# Altium schematic symbol library pwr_mon_supervisor_single.SchLib: 45 symbols
Pins are listed as number, name and electrical type; pins without a type are passive.

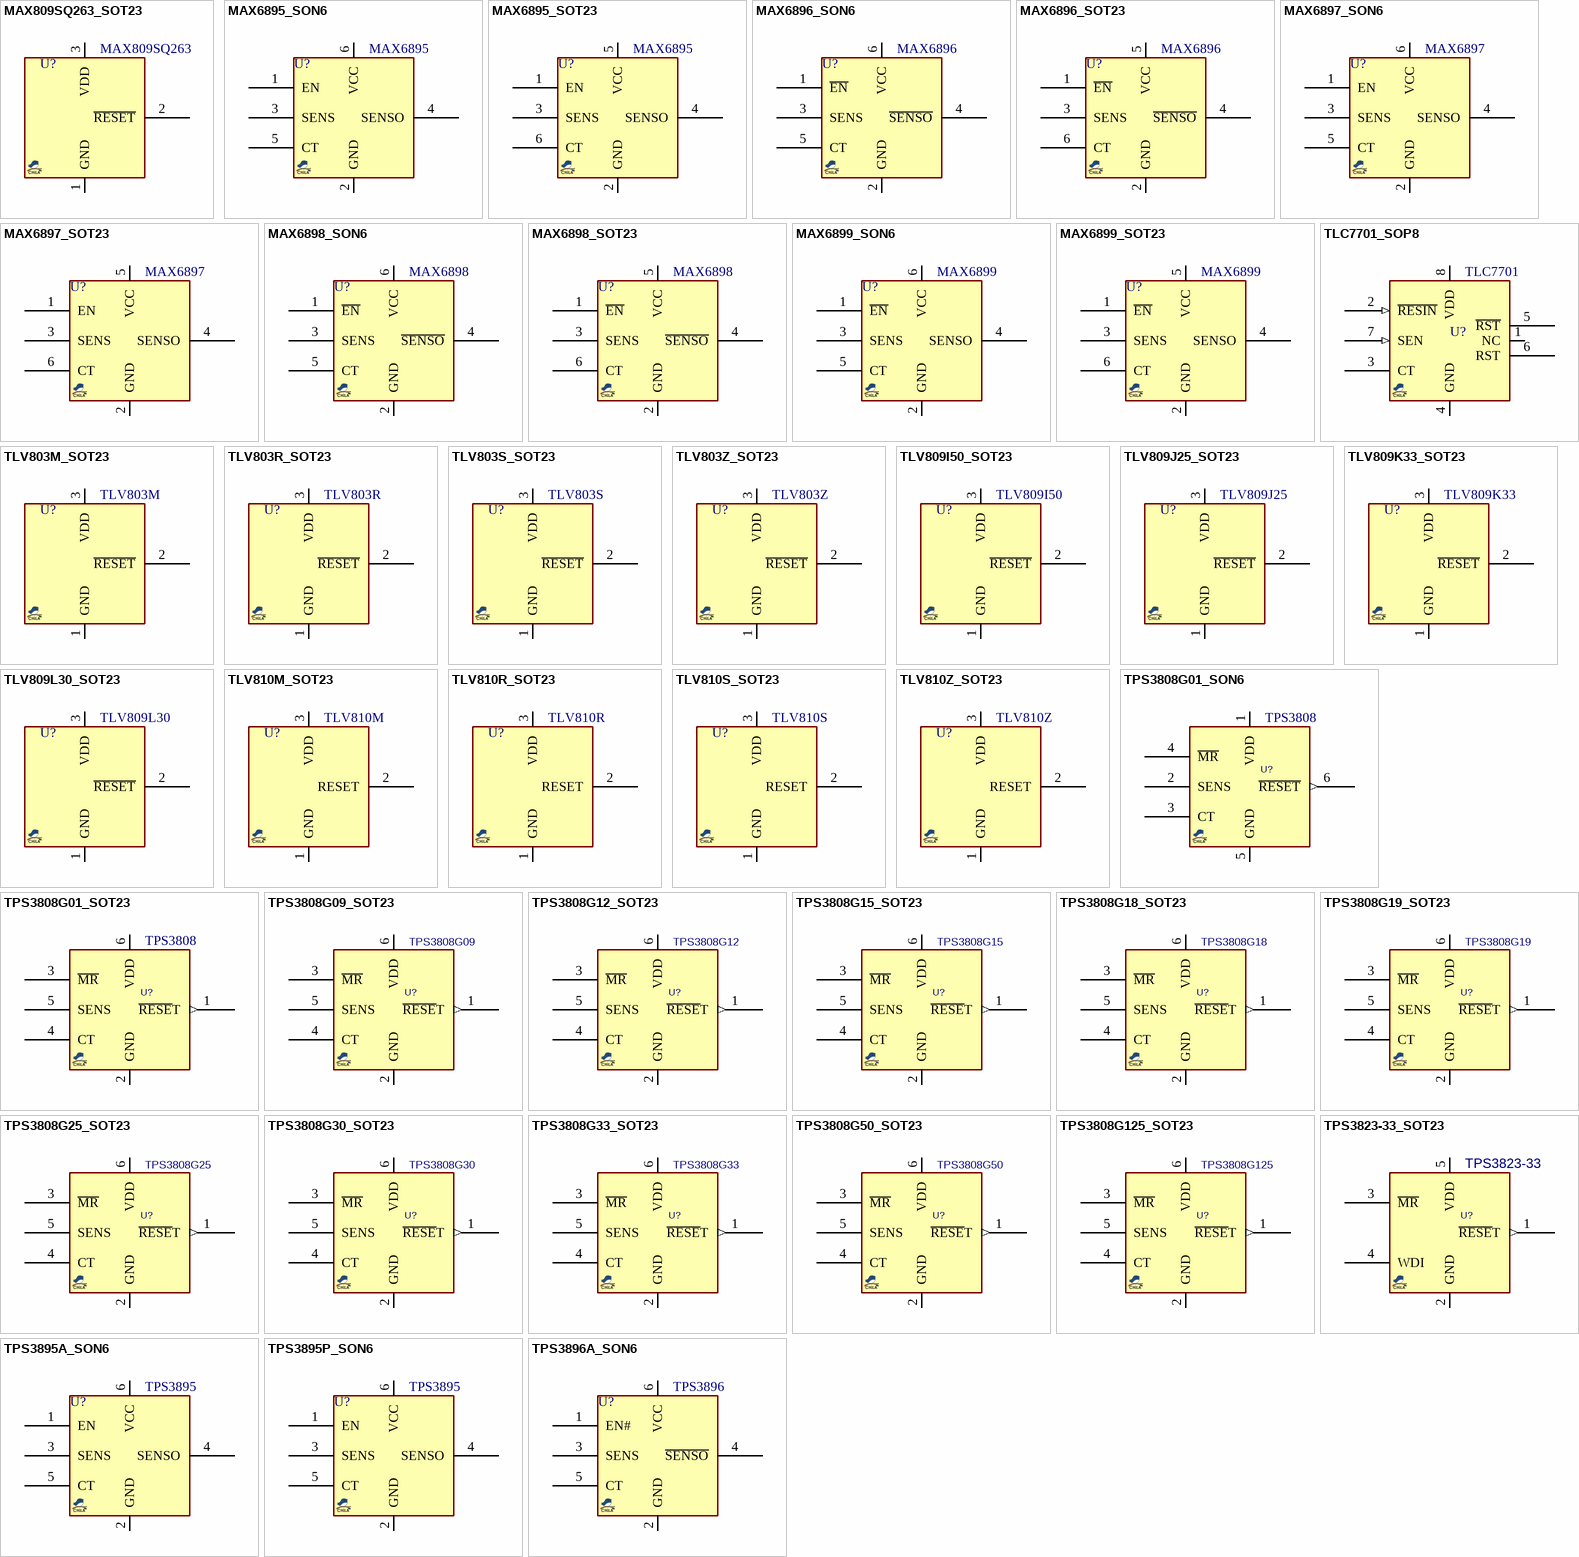
[diagram p0: symbols MAX809SQ263_SOT23 to TPS3896A_SON6]

## MAX809SQ263_SOT23
designator U?, comment MAX809SQ263
PWR SUPERVISOR, 1.2~4.9V SC70-3; MANF: ON; MANF_P#: MAX809SQ263T1G; PARAM2: 2.63Vth, -40°C ~ 105°C; PARAM: ActiveLow, Push-pull, 140ms Min; PRICE: 1=0.55$; VALUE: MAX809SQ263; PACKAGE: SOT323-3; MountType: SMD; Part Type: IC
footprint SOT323_3 (SOT323, SC-70/SC70-3L, DCK, MO-203, 2X1.25mm, 1.27mm pitch)
pins: 1 GND, 2 ~{RESET}, 3 VDD

## MAX6895_SON6
designator U?, comment MAX6895
PWR SUPERVISOR, ActiveHigh, Push-pull, Adj; MANF: Maxim Integrated; MANF_P#: MAX6895AALT+T; PARAM2: 1.5~5.5V, 0.5Vth, CapAdj; PARAM: ActiveHigh, Push-pull, -40~125oC; PRICE: 2$; VALUE: MAX6895; PACKAGE: UDFN-6_1.5x1.0mm; MountType: SMD; Part Type: IC
footprint SON50_6_140X100 (DRY, ULLGA6_1.45X1_0.5MM, USON 6-PIN , Udfn)
pins: 1 EN, 2 GND, 3 SENS, 4 SENSO, 5 CT, 6 VCC

## MAX6895_SOT23
designator U?, comment MAX6895
PWR SUPERVISOR, ActiveHigh, Push-pull, Adj; MANF: Maxim Integrated; MANF_P#: MAX6895AAZT+T; PARAM2: 1.5~5.5V, 0.5Vth, CapAdj; PARAM: ActiveHigh, Push-pull, -40~125oC; PRICE: 2$; VALUE: MAX6895; PACKAGE: SOT23-6; MountType: SMD; Part Type: IC
footprint SOT23_6 (SOT-23-6, MICRO6, SOT-26, SOT457, SuperSOT6, TSOP-6, HMC313, MO-178AB, MO-193AA, TSOT)
pins: 1 EN, 2 GND, 3 SENS, 4 SENSO, 5 VCC, 6 CT

## MAX6896_SON6
designator U?, comment MAX6896
PWR SUPERVISOR, ActiveLow, Push-pull, Adj; MANF: Maxim Integrated; MANF_P#: MAX6896AALT+T; PARAM2: 1.5~5.5V, 0.5Vth, CapAdj; PARAM: ActiveLow, Push-pull, -40~125oC; PRICE: 2$; VALUE: MAX6896; PACKAGE: UDFN-6_1.5x1.0mm; MountType: SMD; Part Type: IC
footprint SON50_6_140X100 (DRY, ULLGA6_1.45X1_0.5MM, USON 6-PIN , Udfn)
pins: 1 ~{EN}, 2 GND, 3 SENS, 4 ~{SENSO}, 5 CT, 6 VCC

## MAX6896_SOT23
designator U?, comment MAX6896
PWR SUPERVISOR, ActiveLow, Push-pull, Adj; MANF: Maxim Integrated; MANF_P#: MAX6896AAZT+T; PARAM2: 1.5~5.5V, 0.5Vth, CapAdj; PARAM: ActiveLow, Push-pull, -40~125oC; PRICE: 2$; VALUE: MAX6896; PACKAGE: SOT23-6; MountType: SMD; Part Type: IC
footprint SOT23_6 (SOT-23-6, MICRO6, SOT-26, SOT457, SuperSOT6, TSOP-6, HMC313, MO-178AB, MO-193AA, TSOT)
pins: 1 ~{EN}, 2 GND, 3 SENS, 4 ~{SENSO}, 5 VCC, 6 CT

## MAX6897_SON6
designator U?, comment MAX6897
PWR SUPERVISOR, ActiveHigh, OpenDrain, Adj; MANF: Maxim Integrated; MANF_P#: MAX6897AALT+T; PARAM2: 1.5~5.5V, 0.5Vth, CapAdj; PARAM: ActiveHigh, OpenDrain, -40~125oC; PRICE: 2$; VALUE: MAX6897; PACKAGE: UDFN-6_1.5x1.0mm; MountType: SMD; Part Type: IC
footprint SON50_6_140X100 (DRY, ULLGA6_1.45X1_0.5MM, USON 6-PIN , Udfn)
pins: 1 EN, 2 GND, 3 SENS, 4 SENSO, 5 CT, 6 VCC

## MAX6897_SOT23
designator U?, comment MAX6897
PWR SUPERVISOR, ActiveHigh, OpenDrain, Adj; MANF: Maxim Integrated; MANF_P#: MAX6897AAZT+T; PARAM2: 1.5~5.5V, 0.5Vth, CapAdj; PARAM: ActiveHigh, OpenDrain, -40~125oC; PRICE: 2$; VALUE: MAX6897; PACKAGE: SOT23-6; MountType: SMD; Part Type: IC
footprint SOT23_6 (SOT-23-6, MICRO6, SOT-26, SOT457, SuperSOT6, TSOP-6, HMC313, MO-178AB, MO-193AA, TSOT)
pins: 1 EN, 2 GND, 3 SENS, 4 SENSO, 5 VCC, 6 CT

## MAX6898_SON6
designator U?, comment MAX6898
PWR SUPERVISOR, ActiveLow, OpenDrain, Adj; MANF: Maxim Integrated; MANF_P#: MAX6898AALT+T; PARAM2: 1.5~5.5V, 0.5Vth, CapAdj; PARAM: ActiveLow, OpenDrain, -40~125oC; PRICE: 2$; VALUE: MAX6898; PACKAGE: UDFN-6_1.5x1.0mm; MountType: SMD; Part Type: IC
footprint SON50_6_140X100 (DRY, ULLGA6_1.45X1_0.5MM, USON 6-PIN , Udfn)
pins: 1 ~{EN}, 2 GND, 3 SENS, 4 ~{SENSO}, 5 CT, 6 VCC

## MAX6898_SOT23
designator U?, comment MAX6898
PWR SUPERVISOR, ActiveLow, OpenDrain, Adj; MANF: Maxim Integrated; MANF_P#: MAX6898AAZT+T; PARAM2: 1.5~5.5V, 0.5Vth, CapAdj; PARAM: ActiveLow, OpenDrain, -40~125oC; PRICE: 2$; VALUE: MAX6898; PACKAGE: SOT23-6; MountType: SMD; Part Type: IC
footprint SOT23_6 (SOT-23-6, MICRO6, SOT-26, SOT457, SuperSOT6, TSOP-6, HMC313, MO-178AB, MO-193AA, TSOT)
pins: 1 ~{EN}, 2 GND, 3 SENS, 4 ~{SENSO}, 5 VCC, 6 CT

## MAX6899_SON6
designator U?, comment MAX6899
PWR SUPERVISOR, ActiveLow, PushPull, Adj; MANF: Maxim Integrated; MANF_P#: MAX6899AALT+T; PARAM2: 1.5~5.5V, 0.5Vth, CapAdj; PARAM: ActiveLow, PushPull, -40~125oC; PRICE: 2$; VALUE: MAX6899; PACKAGE: UDFN-6_1.5x1.0mm; MountType: SMD; Part Type: IC
footprint SON50_6_140X100 (DRY, ULLGA6_1.45X1_0.5MM, USON 6-PIN , Udfn)
pins: 1 ~{EN}, 2 GND, 3 SENS, 4 SENSO, 5 CT, 6 VCC

## MAX6899_SOT23
designator U?, comment MAX6899
PWR SUPERVISOR, ActiveLow, PushPull, Adj; MANF: Maxim Integrated; MANF_P#: MAX6899AAZT+T; PARAM2: 1.5~5.5V, 0.5Vth, CapAdj; PARAM: ActiveLow, PushPull, -40~125oC; PRICE: 2$; VALUE: MAX6899; PACKAGE: SOT23-6; MountType: SMD; Part Type: IC
footprint SOT23_6 (SOT-23-6, MICRO6, SOT-26, SOT457, SuperSOT6, TSOP-6, HMC313, MO-178AB, MO-193AA, TSOT)
pins: 1 ~{EN}, 2 GND, 3 SENS, 4 SENSO, 5 VCC, 6 CT

## TLC7701_SOP8
designator U?, comment TLC7701
PWR SUPERVISOR, LinCMOS; MANF: Texas Instruments; MANF_P#: TLC7701ID; PARAM2: 2~6Vcc, 1.1Vth, -40~125oC; PRICE: 2$; VALUE: TLC7701; PACKAGE: SOP-8; MountType: SMD; Part Type: IC
footprint SO_8 (SOP-8, 5x3.9mm body 1.27mm pitch, SOT96-1, M08A, S8, SOIC8, VO8, MS-012AA(JEDEC), R-8, 8S2, VOG8)
pins: 1 NC, 2 ~{RESIN} (in), 3 CT, 4 GND (power), 5 ~{RST} (oc), 6 RST (oc), 7 SEN (in), 8 VDD (power)

## TLV803M_SOT23
designator U?, comment TLV803M
PWR SUPERVISOR, 5.0V SOT23-3; MANF: Texas Instruments; MANF_P#: TLV803MDBZR; PARAM2: 4.38Vth, -40°C ~ 125°C; PARAM: ActiveLow, OpenDrain, 120ms Min; PRICE: 1=0.66, 10=0.578, 25=0.5104, 100=0.216, 250=0.212, 500=0.208, 750=0.204 (USD); VALUE: TLV803M; PACKAGE: SOT23-3; MountType: SMD; Part Type: IC
footprint SOT23_3 (SOT-23, Micro3, MO-178, TO-236AB, MO-193C, SuperSOT3, SC-59, 1.9mm pitch 3X1.5mm body)
pins: 1 GND, 2 ~{RESET}, 3 VDD

## TLV803R_SOT23
designator U?, comment TLV803R
PWR SUPERVISOR, 3.0V SOT23-3; MANF: Texas Instruments; MANF_P#: TLV803RDBZR; PARAM2: 2.64Vth, -40°C ~ 125°C; PARAM: ActiveLow, OpenDrain, 120ms Min; PRICE: 1=0.66, 10=0.578, 25=0.5104, 100=0.216, 250=0.212, 500=0.208, 750=0.204 (USD); VALUE: TLV803R; PACKAGE: SOT23-3; MountType: SMD; Part Type: IC
footprint SOT23_3 (SOT-23, Micro3, MO-178, TO-236AB, MO-193C, SuperSOT3, SC-59, 1.9mm pitch 3X1.5mm body)
pins: 1 GND, 2 ~{RESET}, 3 VDD

## TLV803S_SOT23
designator U?, comment TLV803S
PWR SUPERVISOR, 3.3V SOT23-3; MANF: Texas Instruments; MANF_P#: TLV803SDBZR; PARAM2: 2.93Vth, -40°C ~ 125°C; PARAM: ActiveLow, OpenDrain, 120ms Min; PRICE: 1=0.66, 10=0.578, 25=0.5104, 100=0.216, 250=0.212, 500=0.208, 750=0.204 (USD); VALUE: TLV803S; PACKAGE: SOT23-3; MountType: SMD; Part Type: IC
footprint SOT23_3 (SOT-23, Micro3, MO-178, TO-236AB, MO-193C, SuperSOT3, SC-59, 1.9mm pitch 3X1.5mm body)
pins: 1 GND, 2 ~{RESET}, 3 VDD

## TLV803Z_SOT23
designator U?, comment TLV803Z
PWR SUPERVISOR, 2.5V SOT23-3; MANF: Texas Instruments; MANF_P#: TLV803ZDBZR; PARAM2: 2.25Vth, -40°C ~ 125°C; PARAM: ActiveLow, OpenDrain, 120ms Min; PRICE: 1=0.66, 10=0.578, 25=0.5104, 100=0.216, 250=0.212, 500=0.208, 750=0.204 (USD); VALUE: TLV803Z; PACKAGE: SOT23-3; MountType: SMD; Part Type: IC
footprint SOT23_3 (SOT-23, Micro3, MO-178, TO-236AB, MO-193C, SuperSOT3, SC-59, 1.9mm pitch 3X1.5mm body)
pins: 1 GND, 2 ~{RESET}, 3 VDD

## TLV809I50_SOT23
designator U?, comment TLV809I50
PWR SUPERVISOR, 5.0V, PushPull, SOT23-3; MANF: Texas Instruments; MANF_P#: TLV809I50DBVR; PARAM2: 4.55Vth, -40°C ~ 125°C; PARAM: ActiveLow, PushPull, 120ms Min; PRICE: 1=0.66, 10=0.578, 25=0.5104, 100=0.216, 250=0.212, 500=0.208, 750=0.204 (USD); VALUE: TLV809I50; PACKAGE: SOT23-3; MountType: SMD; Part Type: IC
footprint SOT23_3 (SOT-23, Micro3, MO-178, TO-236AB, MO-193C, SuperSOT3, SC-59, 1.9mm pitch 3X1.5mm body)
pins: 1 GND, 2 ~{RESET}, 3 VDD

## TLV809J25_SOT23
designator U?, comment TLV809J25
PWR SUPERVISOR, 2.5V, PushPull, SOT23-3; MANF: Texas Instruments; MANF_P#: TLV809J25DBVR; PARAM2: 2.25Vth, -40°C ~ 125°C; PARAM: ActiveLow, PushPull, 120ms Min; PRICE: 1=0.66, 10=0.578, 25=0.5104, 100=0.216, 250=0.212, 500=0.208, 750=0.204 (USD); VALUE: TLV809J25; PACKAGE: SOT23-3; MountType: SMD; Part Type: IC
footprint SOT23_3 (SOT-23, Micro3, MO-178, TO-236AB, MO-193C, SuperSOT3, SC-59, 1.9mm pitch 3X1.5mm body)
pins: 1 GND, 2 ~{RESET}, 3 VDD

## TLV809K33_SOT23
designator U?, comment TLV809K33
PWR SUPERVISOR, 3.3V, PushPull, SOT23-3; MANF: Texas Instruments; MANF_P#: TLV809K33DBVR; PARAM2: 2.93Vth, -40°C ~ 125°C; PARAM: ActiveLow, PushPull, 120ms Min; PRICE: 1=0.66, 10=0.578, 25=0.5104, 100=0.216, 250=0.212, 500=0.208, 750=0.204 (USD); VALUE: TLV809K33; PACKAGE: SOT23-3; MountType: SMD; Part Type: IC
footprint SOT23_3 (SOT-23, Micro3, MO-178, TO-236AB, MO-193C, SuperSOT3, SC-59, 1.9mm pitch 3X1.5mm body)
pins: 1 GND, 2 ~{RESET}, 3 VDD

## TLV809L30_SOT23
designator U?, comment TLV809L30
PWR SUPERVISOR, 3.0V, PushPull, SOT23-3; MANF: Texas Instruments; MANF_P#: TLV809L30DBVR; PARAM2: 2.64Vth, -40°C ~ 125°C; PARAM: ActiveLow, PushPull, 120ms Min; PRICE: 1=0.66, 10=0.578, 25=0.5104, 100=0.216, 250=0.212, 500=0.208, 750=0.204 (USD); VALUE: TLV809L30; PACKAGE: SOT23-3; MountType: SMD; Part Type: IC
footprint SOT23_3 (SOT-23, Micro3, MO-178, TO-236AB, MO-193C, SuperSOT3, SC-59, 1.9mm pitch 3X1.5mm body)
pins: 1 GND, 2 ~{RESET}, 3 VDD

## TLV810M_SOT23
designator U?, comment TLV810M
PWR SUPERVISOR, 5.0V, PushPull, SOT23-3; MANF: Texas Instruments; MANF_P#: TLV810MDBZR; PARAM2: 4.38Vth, -40°C ~ 125°C; PARAM: ActiveHighOutput, PushPull, 120ms Min; PRICE: 1=0.66, 10=0.578, 25=0.5104, 100=0.216, 250=0.212, 500=0.208, 750=0.204 (USD); VALUE: TLV810M; PACKAGE: SOT23-3; MountType: SMD; Part Type: IC
footprint SOT23_3 (SOT-23, Micro3, MO-178, TO-236AB, MO-193C, SuperSOT3, SC-59, 1.9mm pitch 3X1.5mm body)
pins: 1 GND, 2 RESET, 3 VDD

## TLV810R_SOT23
designator U?, comment TLV810R
PWR SUPERVISOR, 3.0V, PushPull, SOT23-3; MANF: Texas Instruments; MANF_P#: TLV810RDBZR; PARAM2: 2.64Vth, -40°C ~ 125°C; PARAM: ActiveHighOutput, PushPull, 120ms Min; PRICE: 1=0.66, 10=0.578, 25=0.5104, 100=0.216, 250=0.212, 500=0.208, 750=0.204 (USD); VALUE: TLV810R; PACKAGE: SOT23-3; MountType: SMD; Part Type: IC
footprint SOT23_3 (SOT-23, Micro3, MO-178, TO-236AB, MO-193C, SuperSOT3, SC-59, 1.9mm pitch 3X1.5mm body)
pins: 1 GND, 2 RESET, 3 VDD

## TLV810S_SOT23
designator U?, comment TLV810S
PWR SUPERVISOR, 3.3V, PushPull, SOT23-3; MANF: Texas Instruments; MANF_P#: TLV810SDBZR; PARAM2: 2.93Vth, -40°C ~ 125°C; PARAM: ActiveHighOutput, PushPull, 120ms Min; PRICE: 1=0.66, 10=0.578, 25=0.5104, 100=0.216, 250=0.212, 500=0.208, 750=0.204 (USD); VALUE: TLV810S; PACKAGE: SOT23-3; MountType: SMD; Part Type: IC
footprint SOT23_3 (SOT-23, Micro3, MO-178, TO-236AB, MO-193C, SuperSOT3, SC-59, 1.9mm pitch 3X1.5mm body)
pins: 1 GND, 2 RESET, 3 VDD

## TLV810Z_SOT23
designator U?, comment TLV810Z
PWR SUPERVISOR, 2.5V, PushPull, SOT23-3; MANF: Texas Instruments; MANF_P#: TLV810ZDBZR; PARAM2: 2.25Vth, -40°C ~ 125°C; PARAM: ActiveHighOutput, PushPull, 120ms Min; PRICE: 1=0.66, 10=0.578, 25=0.5104, 100=0.216, 250=0.212, 500=0.208, 750=0.204 (USD); VALUE: TLV810Z; PACKAGE: SOT23-3; MountType: SMD; Part Type: IC
footprint SOT23_3 (SOT-23, Micro3, MO-178, TO-236AB, MO-193C, SuperSOT3, SC-59, 1.9mm pitch 3X1.5mm body)
pins: 1 GND, 2 RESET, 3 VDD

## TPS3808G01_SON6
designator U?, comment TPS3808
PWR SUPERVISOR, Adj, SON-6; MANF: Texas Instruments; MANF_P#: TPS3808G09DBVR; PARAM2: 1.7~6.5V, 0.4Vth, -40°C ~ 125°C; PARAM: OpenDrain,ActiveLow, Adj.; PRICE: 1.7$; VALUE: TPS3808; PACKAGE: WSON-6_2x2mm; MountType: SMD; Part Type: IC
footprint SON65_6T_2X2 (DRV PWSON DFN6 Pitch: 0.65mm 2x2x1.1mm)
pins: 1 VDD, 2 SENS, 3 CT, 4 ~{MR}, 5 GND, 6 ~{RESET} (out)

## TPS3808G01_SOT23
designator U?, comment TPS3808
PWR SUPERVISOR, Adj, SOT23-6; MANF: Texas Instruments; MANF_P#: TPS3808G09DBVR; PARAM2: 1.7~6.5V, 0.4Vth, -40°C ~ 125°C; PARAM: OpenDrain,ActiveLow, Adj.; PRICE: 1.7$; VALUE: TPS3808; PACKAGE: SOT23-6; MountType: SMD; Part Type: IC
footprint SOT23_6 (SOT-23-6, MICRO6, SOT-26, SOT457, SuperSOT6, TSOP-6, HMC313, MO-178AB, MO-193AA, TSOT)
pins: 1 ~{RESE}T (out), 2 GND, 3 ~{MR}, 4 CT, 5 SENS, 6 VDD

## TPS3808G09_SOT23
designator U?, comment TPS3808G09
PWR SUPERVISOR 0.9V SOT23-6; MANF: Texas Instruments; MANF_P#: TPS3808G09DBVR; PARAM2: 1.7~6.5V, 0.84Vth, -40°C ~ 125°C; PARAM: OpenDrain,ActiveLow, Fix; PRICE: 1.7$; VALUE: TPS3808G09; PACKAGE: SOT23-6; MountType: SMD; Part Type: IC
footprint SOT23_6 (SOT-23-6, MICRO6, SOT-26, SOT457, SuperSOT6, TSOP-6, HMC313, MO-178AB, MO-193AA, TSOT)
pins: 1 ~{RESE}T (out), 2 GND, 3 ~{MR}, 4 CT, 5 SENS, 6 VDD

## TPS3808G12_SOT23
designator U?, comment TPS3808G12
PWR SUPERVISOR 1.2V SOT23-6; MANF: Texas Instruments; MANF_P#: TPS3808G12DBVR; PARAM2: 1.7~6.5V, 1.12Vth, -40°C ~ 125°C; PARAM: OpenDrain,ActiveLow, Fix; PRICE: 1.7$; VALUE: TPS3808G12; PACKAGE: SOT23-6; MountType: SMD; Part Type: IC
footprint SOT23_6 (SOT-23-6, MICRO6, SOT-26, SOT457, SuperSOT6, TSOP-6, HMC313, MO-178AB, MO-193AA, TSOT)
pins: 1 ~{RESE}T (out), 2 GND, 3 ~{MR}, 4 CT, 5 SENS, 6 VDD

## TPS3808G15_SOT23
designator U?, comment TPS3808G15
PWR SUPERVISOR 1.5V SOT23-6; MANF: Texas Instruments; MANF_P#: TPS3808G15DBVR; PARAM2: 1.7~6.5V, 1.4Vth, -40°C ~ 125°C; PARAM: OpenDrain,ActiveLow, Fix; PRICE: 1.7$; VALUE: TPS3808G15; PACKAGE: SOT23-6; MountType: SMD; Part Type: IC
footprint SOT23_6 (SOT-23-6, MICRO6, SOT-26, SOT457, SuperSOT6, TSOP-6, HMC313, MO-178AB, MO-193AA, TSOT)
pins: 1 ~{RESE}T (out), 2 GND, 3 ~{MR}, 4 CT, 5 SENS, 6 VDD

## TPS3808G18_SOT23
designator U?, comment TPS3808G18
PWR SUPERVISOR 1.8V SOT23-6; MANF: Texas Instruments; MANF_P#: TPS3808G18DBVR; PARAM2: 1.7~6.5V, 1.67Vth, -40°C ~ 125°C; PARAM: OpenDrain,ActiveLow, Fix; PRICE: 1.7$; VALUE: TPS3808G18; PACKAGE: SOT23-6; MountType: SMD; Part Type: IC
footprint SOT23_6 (SOT-23-6, MICRO6, SOT-26, SOT457, SuperSOT6, TSOP-6, HMC313, MO-178AB, MO-193AA, TSOT)
pins: 1 ~{RESE}T (out), 2 GND, 3 ~{MR}, 4 CT, 5 SENS, 6 VDD

## TPS3808G19_SOT23
designator U?, comment TPS3808G19
PWR SUPERVISOR 1.9V SOT23-6; MANF: Texas Instruments; MANF_P#: TPS3808G19DBVR; PARAM2: 1.7~6.5V, 1.77Vth, -40°C ~ 125°C; PARAM: OpenDrain,ActiveLow, Fix; PRICE: 1.7$; VALUE: TPS3808G19; PACKAGE: SOT23-6; MountType: SMD; Part Type: IC
footprint SOT23_6 (SOT-23-6, MICRO6, SOT-26, SOT457, SuperSOT6, TSOP-6, HMC313, MO-178AB, MO-193AA, TSOT)
pins: 1 ~{RESE}T (out), 2 GND, 3 ~{MR}, 4 CT, 5 SENS, 6 VDD

## TPS3808G25_SOT23
designator U?, comment TPS3808G25
PWR SUPERVISOR 2.5V SOT23-6; MANF: Texas Instruments; MANF_P#: TPS3808G25DBVR; PARAM2: 1.7~6.5V, 2.33Vth, -40°C ~ 125°C; PARAM: OpenDrain,ActiveLow, Fix; PRICE: 1.7$; VALUE: TPS3808G25; PACKAGE: SOT23-6; MountType: SMD; Part Type: IC
footprint SOT23_6 (SOT-23-6, MICRO6, SOT-26, SOT457, SuperSOT6, TSOP-6, HMC313, MO-178AB, MO-193AA, TSOT)
pins: 1 ~{RESE}T (out), 2 GND, 3 ~{MR}, 4 CT, 5 SENS, 6 VDD

## TPS3808G30_SOT23
designator U?, comment TPS3808G30
PWR SUPERVISOR 3.0V SOT23-6; MANF: Texas Instruments; MANF_P#: TPS3808G30DBVR; PARAM2: 1.7~6.5V, 2.79Vth, -40°C ~ 125°C; PARAM: OpenDrain,ActiveLow, Fix; PRICE: 1.7$; VALUE: TPS3808G30; PACKAGE: SOT23-6; MountType: SMD; Part Type: IC
footprint SOT23_6 (SOT-23-6, MICRO6, SOT-26, SOT457, SuperSOT6, TSOP-6, HMC313, MO-178AB, MO-193AA, TSOT)
pins: 1 ~{RESE}T (out), 2 GND, 3 ~{MR}, 4 CT, 5 SENS, 6 VDD

## TPS3808G33_SOT23
designator U?, comment TPS3808G33
PWR SUPERVISOR 3.3V SOT23-6; MANF: Texas Instruments; MANF_P#: TPS3808G33DBVR; PARAM2: 1.7~6.5V, 3.07Vth, -40°C ~ 125°C; PARAM: OpenDrain,ActiveLow, Fix; PRICE: 1.7$; VALUE: TPS3808G33; PACKAGE: SOT23-6; MountType: SMD; Part Type: IC
footprint SOT23_6 (SOT-23-6, MICRO6, SOT-26, SOT457, SuperSOT6, TSOP-6, HMC313, MO-178AB, MO-193AA, TSOT)
pins: 1 ~{RESE}T (out), 2 GND, 3 ~{MR}, 4 CT, 5 SENS, 6 VDD

## TPS3808G50_SOT23
designator U?, comment TPS3808G50
PWR SUPERVISOR 5.0V SOT23-6; MANF: Texas Instruments; MANF_P#: TPS3808G50DBVR; PARAM2: 1.7~6.5V, 4.65Vth, -40°C ~ 125°C; PARAM: OpenDrain,ActiveLow, Fix; PRICE: 1.7$; VALUE: TPS3808G50; PACKAGE: SOT23-6; MountType: SMD; Part Type: IC
footprint SOT23_6 (SOT-23-6, MICRO6, SOT-26, SOT457, SuperSOT6, TSOP-6, HMC313, MO-178AB, MO-193AA, TSOT)
pins: 1 ~{RESE}T (out), 2 GND, 3 ~{MR}, 4 CT, 5 SENS, 6 VDD

## TPS3808G125_SOT23
designator U?, comment TPS3808G125
PWR SUPERVISOR 1.25V SOT23-6; MANF: Texas Instruments; MANF_P#: TPS3808G125DBVR; PARAM2: 1.7~6.5V, 1.16Vth, -40°C ~ 125°C; PARAM: OpenDrain,ActiveLow, Fix; PRICE: 1.7$; VALUE: TPS3808G125; PACKAGE: SOT23-6; MountType: SMD; Part Type: IC
footprint SOT23_6 (SOT-23-6, MICRO6, SOT-26, SOT457, SuperSOT6, TSOP-6, HMC313, MO-178AB, MO-193AA, TSOT)
pins: 1 ~{RESE}T (out), 2 GND, 3 ~{MR}, 4 CT, 5 SENS, 6 VDD

## TPS3823-33_SOT23
designator U?, comment TPS3823-33
PWR SUPERVISOR, SOT23-5; MANF: Texas Instruments; MANF_P#: TPS3823-33DBVR; PARAM2: 1.7~6.5V, 0.4Vth, -40°C ~ 125°C; PARAM: OpenDrain,ActiveLow, Adj.; PRICE: 1.7$; PACKAGE: SOT23-5; MountType: SMD; Part Type: IC; VALUE: TPS3823-33
footprint SOT23_5 (SOT-23-5, SOT25, SOT-25, DBV(R-PDSO-G5), SOT753, TSOT23-5, SC-74A, SOT23-5, S5-T (LINEAR), MO-178AA, MO-193AB(JEDEC), MF05A (NS), TSOP-5(ON), UJ-5 (AD), 1.5x3mm, Pitch 0.65mm)
pins: 1 ~{RESE}T (out), 2 GND, 3 ~{MR}, 4 WDI, 5 VDD

## TPS3895A_SON6
designator U?, comment TPS3895
PWR SUPERVISOR, ActiveHigh, Push-pull, Adj; MANF: TI; MANF_P#: TPS3895ADRY; PARAM2: 1.7~6.5V, 0.5Vth, CapAdj; PARAM: ActiveHigh, push-pull, -40~125oC; PRICE: 1.4$; VALUE: TPS3895; PACKAGE: USON-6_1.45x1.0mm; MountType: SMD; Part Type: IC
footprint SON50_6_140X100 (DRY, ULLGA6_1.45X1_0.5MM, USON 6-PIN , Udfn)
pins: 1 EN, 2 GND, 3 SENS, 4 SENSO, 5 CT, 6 VCC

## TPS3895P_SON6
designator U?, comment TPS3895
PWR SUPERVISOR, ActiveHigh, Push-pull, Adj; MANF: TI; MANF_P#: TPS3895PDRY; PARAM2: 1.7~6.5V, 0.5Vth, 0.2us; PARAM: ActiveHigh, push-pull, -40~125oC; PRICE: 1.4$; VALUE: TPS3895; PACKAGE: USON-6_1.45x1.0mm; MountType: SMD; Part Type: IC
footprint SON50_6_140X100 (DRY, ULLGA6_1.45X1_0.5MM, USON 6-PIN , Udfn)
pins: 1 EN, 2 GND, 3 SENS, 4 SENSO, 5 CT, 6 VCC

## TPS3896A_SON6
designator U?, comment TPS3896
PWR SUPERVISOR, ActiveLow, Push-pull, Adj; MANF: TI; MANF_P#: TPS3896ADRY; PARAM2: 1.7~6.5V, 0.5Vth, CapAdj; PARAM: ActiveLow, push-pull, -40~125oC; PRICE: 1.4$; VALUE: TPS3896; PACKAGE: USON-6_1.45x1.0mm; MountType: SMD; Part Type: IC
footprint SON50_6_140X100 (DRY, ULLGA6_1.45X1_0.5MM, USON 6-PIN , Udfn)
pins: 1 EN#, 2 GND, 3 SENS, 4 ~{SENSO}, 5 CT, 6 VCC

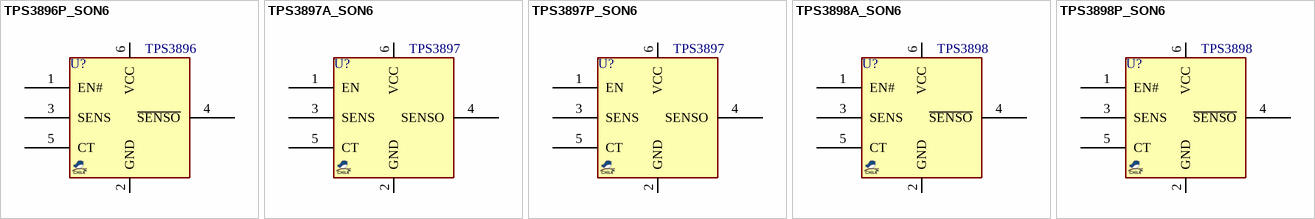
[diagram p1: symbols TPS3896P_SON6 to TPS3898P_SON6]

## TPS3896P_SON6
designator U?, comment TPS3896
PWR SUPERVISOR, ActiveLow, Push-pull, Adj; MANF: TI; MANF_P#: TPS3896PDRY; PARAM2: 1.7~6.5V, 0.5Vth, 0.2us; PARAM: ActiveLow, push-pull, -40~125oC; PRICE: 1.4$; VALUE: TPS3896; PACKAGE: USON-6_1.45x1.0mm; MountType: SMD; Part Type: IC
footprint SON50_6_140X100 (DRY, ULLGA6_1.45X1_0.5MM, USON 6-PIN , Udfn)
pins: 1 EN#, 2 GND, 3 SENS, 4 ~{SENSO}, 5 CT, 6 VCC

## TPS3897A_SON6
designator U?, comment TPS3897
PWR SUPERVISOR, ActiveHigh, OpenDrain, Adj; MANF: TI; MANF_P#: TPS3897ADRY; PARAM2: 1.7~6.5V, 0.5Vth, CapAdj; PARAM: ActiveHigh, OpenDrain, -40~125oC; PRICE: 1.4$; VALUE: TPS3897; PACKAGE: USON-6_1.45x1.0mm; MountType: SMD; Part Type: IC
footprint SON50_6_140X100 (DRY, ULLGA6_1.45X1_0.5MM, USON 6-PIN , Udfn)
pins: 1 EN, 2 GND, 3 SENS, 4 SENSO, 5 CT, 6 VCC

## TPS3897P_SON6
designator U?, comment TPS3897
PWR SUPERVISOR, ActiveHigh, OpenDrain, Adj; MANF: TI; MANF_P#: TPS3897PDRY; PARAM2: 1.7~6.5V, 0.5Vth, 0.2us; PARAM: ActiveHigh, OpenDrain, -40~125oC; PRICE: 1.4$; VALUE: TPS3897; PACKAGE: USON-6_1.45x1.0mm; MountType: SMD; Part Type: IC
footprint SON50_6_140X100 (DRY, ULLGA6_1.45X1_0.5MM, USON 6-PIN , Udfn)
pins: 1 EN, 2 GND, 3 SENS, 4 SENSO, 5 CT, 6 VCC

## TPS3898A_SON6
designator U?, comment TPS3898
PWR SUPERVISOR, ActiveLow, OpenDrain, Adj; MANF: TI; MANF_P#: TPS3898ADRY; PARAM2: 1.7~6.5V, 0.5Vth, CapAdj; PARAM: ActiveLow, OpenDrain, -40~125oC; PRICE: 1.4$; VALUE: TPS3898; PACKAGE: USON-6_1.45x1.0mm; MountType: SMD; Part Type: IC
footprint SON50_6_140X100 (DRY, ULLGA6_1.45X1_0.5MM, USON 6-PIN , Udfn)
pins: 1 EN#, 2 GND, 3 SENS, 4 ~{SENSO}, 5 CT, 6 VCC

## TPS3898P_SON6
designator U?, comment TPS3898
PWR SUPERVISOR, ActiveLow, OpenDrain, Adj; MANF: TI; MANF_P#: TPS3898PDRY; PARAM2: 1.7~6.5V, 0.5Vth, 0.2us; PARAM: ActiveLow, OpenDrain, -40~125oC; PRICE: 1.4$; VALUE: TPS3898; PACKAGE: USON-6_1.45x1.0mm; MountType: SMD; Part Type: IC
footprint SON50_6_140X100 (DRY, ULLGA6_1.45X1_0.5MM, USON 6-PIN , Udfn)
pins: 1 EN#, 2 GND, 3 SENS, 4 ~{SENSO}, 5 CT, 6 VCC